# Altium footprint library EPS.PcbLib: 11 footprints
Each footprint in its own frame and in the unit in brackets; x right, y up, seen from the top. Pads: shape width x height; smd on the part's side, far side on the other; paste and mask are expansions set on the pad; w line width, h text height; cw(c..) or ccw(c..) is an arc to the next point about the centre after c.
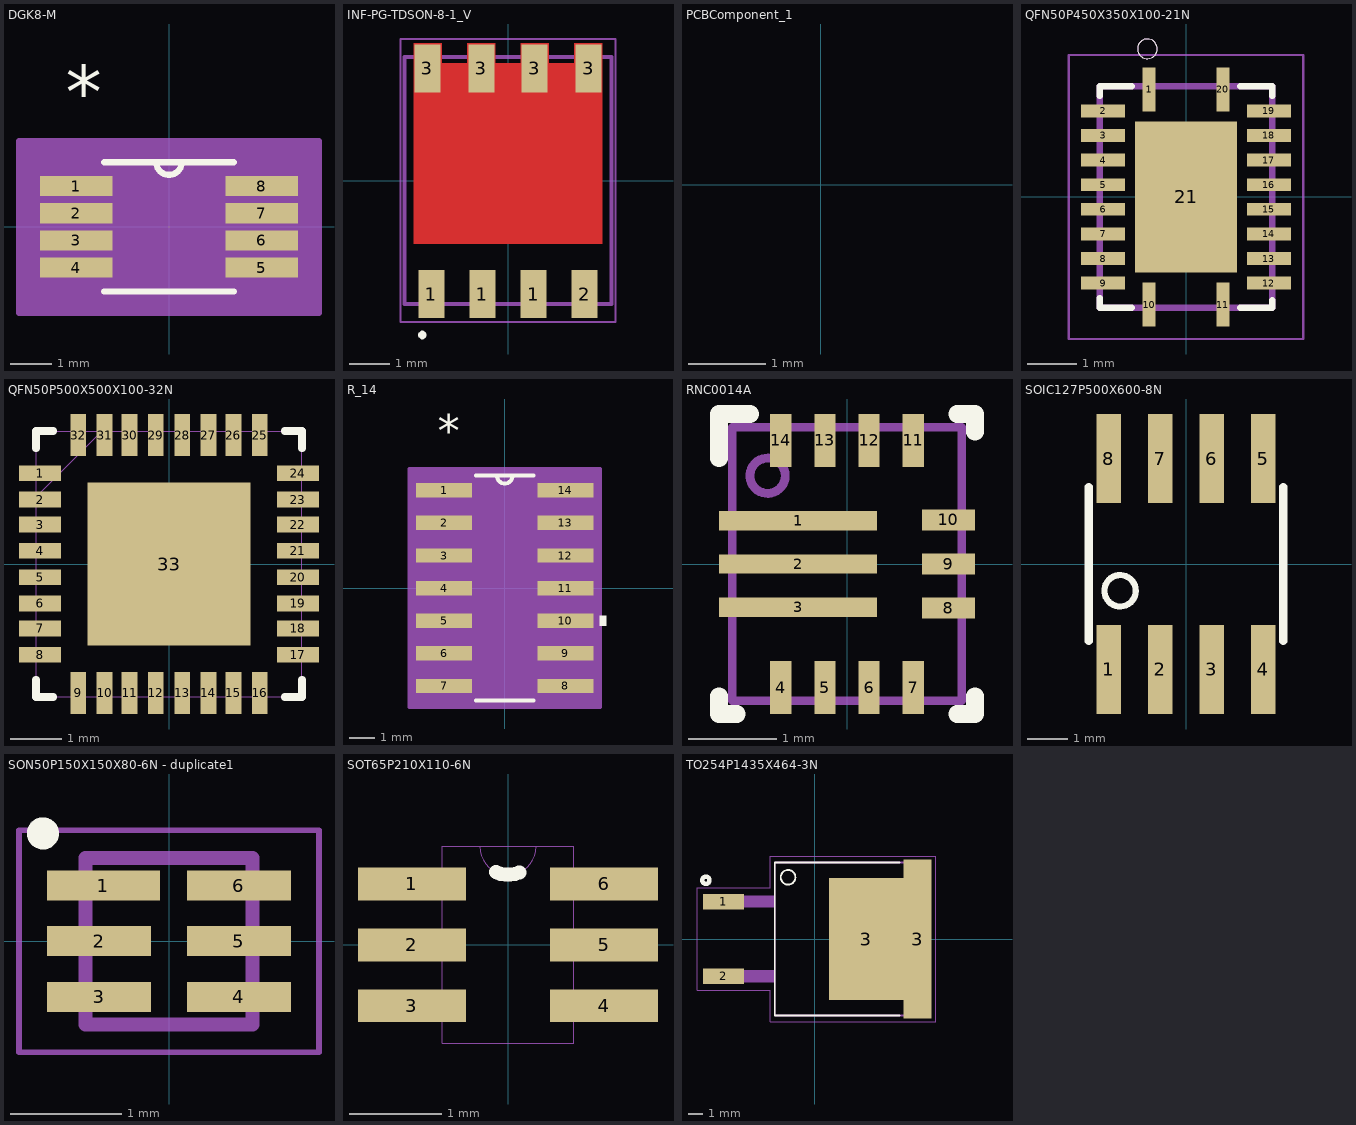
[diagram p0: the footprints below, top view; thin cyan lines are the x and y axes]

## DGK8-M [mil]
pads (8):
  rect 68x19 smd: 1(-87.5,38.39) 2(-87.5,12.8) 3(-87.5,-12.8) 4(-87.5,-38.39) 5(87.5,-38.39) 6(87.5,-12.8) 7(87.5,12.8) 8(87.5,38.39)
Top Overlay:
  lines w6: -61,-61 61,-61 ; -61,61 61,61 ; -12,61 ccw(c0,61) 12,61
  text "*" at -97.5,102.39 h50
Mechanical 13:
  lines w0: -12,61 ccw(c0,61) 12,61
  lines w1: -99.5,-45.89 -61,-45.89 -61,-30.89 -99.5,-30.89 -99.5,-45.89 ; -99.5,-20.3 -61,-20.3 -61,-5.3 -99.5,-5.3 -99.5,-20.3 ; -99.5,5.3 -61,5.3 -61,20.3 -99.5,20.3 -99.5,5.3 ; -99.5,30.89 -61,30.89 -61,45.89 -99.5,45.89 -99.5,30.89 ; -61,-61 -61,61 61,61 61,-61 -61,-61 ; 61,-45.89 99.5,-45.89 99.5,-30.89 61,-30.89 61,-45.89 ; 61,-20.3 99.5,-20.3 99.5,-5.3 61,-5.3 61,-20.3 ; 61,5.3 99.5,5.3 99.5,20.3 61,20.3 61,5.3 ; 61,30.89 99.5,30.89 99.5,45.89 61,45.89 61,30.89
  text "*" at -97.5,102.39 h50
Mechanical 15:
  region: 141.5,-81 -141.5,-81 -141.5,81 141.5,81
  lines w6: -141.5,-81 141.5,-81 141.5,81 -141.5,81 -141.5,-81
3D body: height 10, standoff 0, extent 0,0 10,10

## INF-PG-TDSON-8-1_V [mm] "TDSON, 8-Leads, Body 6.15x5.15mm, Pitch 1.27mm"
height 1
pads (8):
  rect 0.65x1.2 smd: 1(-1.905,-2.825) 1(-0.635,-2.825) 1(0.635,-2.825) 2(1.905,-2.825) 3(-2.007,2.794) 3(-0.66,2.794) 3(0.66,2.794) 3(2.007,2.794)
Top Layer:
  region: 0.315,2.925 1.015,2.925 1.015,3.425 0.315,3.425
  region: -1.015,2.925 -0.315,2.925 -0.315,3.425 -1.015,3.425
  region: 1.65,2.925 2.35,2.925 2.35,3.425 1.65,3.425
  region: -2.35,2.925 -1.65,2.925 -1.65,3.425 -2.35,3.425
  region: -2.35,2.925 -2.35,-1.575 2.35,-1.575 2.35,2.925
Top Overlay:
  region: -2.234,-3.842 -2.234,-3.862 -2.218,-3.899 -2.19,-3.927 -2.153,-3.942 -2.134,-3.942 -2.114,-3.942 -2.077,-3.927 -2.049,-3.899 -2.034,-3.862 -2.034,-3.842 -2.034,-3.822 -2.049,-3.785 -2.077,-3.757 -2.114,-3.742 -2.134,-3.742 -2.153,-3.742 -2.19,-3.757 -2.218,-3.785 -2.234,-3.822
Mechanical 13:
  lines w0.1: -2.575,-3.075 2.575,-3.075 2.575,3.075 -2.575,3.075 -2.575,-3.075
Mechanical 15:
  lines w0.05: -2.675,-3.525 2.675,-3.525 2.675,3.525 -2.675,3.525 -2.675,-3.525
  lines w0.1: -0.5,0 0.5,0 ; 0,-0.5 0,0.5
3D body: height 1, standoff 0, extent -2.575,-3.075 2.575,3.075

## PCBComponent_1 [mm]
pads (4):
  rrect50% 1.79x0.22 on Top Solder: 1(-0.71,0.3) 3(-0.71,-0.68)
  rrect50% 1.79x0.24 on Top Solder: 2(-0.71,-0.19)
  rrect50% 0.24x0.6 on Top Solder: 4(-0.71,-1.59)
Top Layer:
  pour cut-out: 2.286,1.778

## QFN50P450X350X100-21N [mm]
pads (21):
  rect 0.26x0.9 smd: 1(-0.75,2.185) 10(-0.75,-2.185) 11(0.75,-2.185) 20(0.75,2.185)
  rect 0.9x0.26 smd: 2(-1.685,1.75) 3(-1.685,1.25) 4(-1.685,0.75) 5(-1.685,0.25) 6(-1.685,-0.25) 7(-1.685,-0.75) 8(-1.685,-1.25) 9(-1.685,-1.75) 12(1.685,-1.75) 13(1.685,-1.25) 14(1.685,-0.75) 15(1.685,-0.25) 16(1.685,0.25) 17(1.685,0.75) 18(1.685,1.25) 19(1.685,1.75)
  rect 2.07x3.07 smd: 21(0,0)
Top Overlay:
  circle w0: c-0.785,3.01 r0.2
  lines w0.127: -1.75,-2.05 -1.75,-2.25 -1.1,-2.25 ; -1.75,2.05 -1.75,2.25 -1.1,2.25 ; 1.1,-2.25 1.75,-2.25 1.75,-2.1 ; 1.1,2.25 1.75,2.25 1.75,2.05
Top Paste:
  region: -0.672,0.767 0.517,0.767 0.517,-0.997 -0.672,-0.997
Mechanical 1:
  circle w0: c-0.785,3.01 r0.2
  lines w0.05: -2.385,-2.885 -2.385,2.885 2.385,2.885 2.385,-2.885 -2.385,-2.885
  lines w0.127: -1.75,-2.25 -1.75,2.25 1.75,2.25 1.75,-2.25 -1.75,-2.25

## QFN50P500X500X100-32N [mil]
pads (33):
  rect 32x12 smd: 1(-98,69) 2(-98,49) 3(-98,30) 4(-98,10) 5(-98,-10) 6(-98,-30) 7(-98,-49) 8(-98,-69) 17(98,-69) 18(98,-49) 19(98,-30) 20(98,-10) 21(98,10) 22(98,30) 23(98,49) 24(98,69)
  rect 12x32 smd: 9(-69,-98) 10(-49,-98) 11(-30,-98) 12(-10,-98) 13(10,-98) 14(30,-98) 15(49,-98) 16(69,-98) 25(69,98) 26(49,98) 27(30,98) 28(10,98) 29(-10,98) 30(-30,98) 31(-49,98) 32(-69,98)
  rect 124x124 smd: 33(0,0)
Top Overlay:
  lines w6: -101,-88 -101,-101 -88,-101 ; -101,88 -101,101 -88,101 ; 88,-101 101,-101 101,-88 ; 88,101 101,101 101,88
Mechanical 1:
  lines w0: -101,-75 -101,-63 ; -101,-55 -101,-43 ; -101,-35 -101,-24 ; -101,-16 -101,-4 ; -101,4 -101,16 ; -101,24 -101,35 ; -101,43 -101,55 ; -101,51 -51,101 ; -101,63 -101,75 ; -75,-101 -63,-101 ; -75,101 -63,101 ; -55,-101 -43,-101 ; -55,101 -43,101 ; -35,-101 -24,-101 ; -35,101 -24,101 ; -16,-101 -4,-101 ; -16,101 -4,101 ; 4,-101 16,-101 ; 4,101 16,101 ; 24,-101 35,-101 ; 24,101 35,101 ; 43,-101 55,-101 ; 43,101 55,101 ; 63,-101 75,-101 ; 63,101 75,101 ; 101,-75 101,-63 ; 101,-55 101,-43 ; 101,-35 101,-24 ; 101,-16 101,-4 ; 101,4 101,16 ; 101,24 101,35 ; 101,43 101,55 ; 101,63 101,75 ; -101,-101 101,-101 101,101 -101,101 -101,-101

## R_14 [mil]
pads (14):
  rect 86x22 smd: 1(-93,150) 2(-93,100) 3(-93,50) 4(-93,0) 5(-93,-50) 6(-93,-100) 7(-93,-150) 8(93,-150) 9(93,-100) 10(93,-50) 11(93,0) 12(93,50) 13(93,100) 14(93,150)
Top Overlay:
  region: 146,-42.5 156,-42.5 156,-57.5 146,-57.5
  lines w6: -43.94,-172.5 43.94,-172.5 ; -43.94,172.5 43.94,172.5 ; -12,172.5 ccw(c0,172.5) 12,172.5
  text "*" at -103,217 h50
Mechanical 13:
  lines w0: -12,172.5 ccw(c0,172.5) 12,172.5
  lines w1: -122,-160 -122,-140 -79,-140 -79,-160 -122,-160 ; -122,-110 -122,-90 -79,-90 -79,-110 -122,-110 ; -122,-60 -122,-40 -79,-40 -79,-60 -122,-60 ; -122,-10 -122,10 -79,10 -79,-10 -122,-10 ; -122,40 -122,60 -79,60 -79,40 -122,40 ; -122,90 -122,110 -79,110 -79,90 -122,90 ; -122,140 -122,160 -79,160 -79,140 -122,140 ; -79,-172.5 79,-172.5 79,172.5 -79,172.5 -79,-172.5 ; 79,-160 79,-140 122,-140 122,-160 79,-160 ; 79,-110 79,-90 122,-90 122,-110 79,-110 ; 79,-60 79,-40 122,-40 122,-60 79,-60 ; 79,-10 79,10 122,10 122,-10 79,-10 ; 79,40 79,60 122,60 122,40 79,40 ; 79,90 79,110 122,110 122,90 79,90 ; 79,140 79,160 122,160 122,140 79,140
  text "*" at -103,217 h50
Mechanical 15:
  region: 146,-182.5 -146,-182.5 -146,182.5 146,182.5
  lines w6: -146,-182.5 -146,182.5 146,182.5 146,-182.5 -146,-182.5
3D body: height 10, standoff 0, extent 0,0 10,10

## RNC0014A [mm]
pads (14):
  rect 1.79x0.22 smd paste-0.882 mask+0.051: 1(-0.555,0.49) 2(-0.555,0) 3(-0.555,-0.49)
  rect 0.24x0.6 smd paste+0 mask+0.051: 4(-0.75,-1.4) 5(-0.25,-1.4) 6(0.25,-1.4) 7(0.75,-1.4) 11(0.75,1.4) 12(0.25,1.4) 13(-0.25,1.4) 14(-0.75,1.4)
  rect 0.6x0.24 smd paste+0 mask+0.051: 8(1.15,-0.5) 9(1.15,0) 10(1.15,0.5)
Top Overlay:
  lines w0.2: -1.45,-1.5 -1.45,-1.7 -1.25,-1.7 ; -1.45,1.2 -1.45,1.7 -1.1,1.7 ; 1.25,-1.7 1.45,-1.7 1.45,-1.5 ; 1.25,1.7 1.45,1.7 1.45,1.5
Top Paste:
  drawing of 6 lines, arcs and shapes, not listed
Mechanical 13:
  circle w0.1: c-0.9,1 r0.2
  lines w0.1: -1.3,-1.55 -1.3,1.55 1.3,1.55 1.3,-1.55 -1.3,-1.55
3D body: height 0.25, standoff 0, extent 0,0 0.254,0.254

## SOIC127P500X600-8N [mm]
pads (8):
  rect 0.6x2.2 smd: 1(-1.905,-2.6) 2(-0.635,-2.6) 3(0.635,-2.6) 4(1.905,-2.6) 5(1.905,2.6) 6(0.635,2.6) 7(-0.635,2.6) 8(-1.905,2.6)
Top Overlay:
  circle w0.152: c-1.626,-0.66 r0.388
  lines w0.203: -2.4,-1.9 -2.4,-1.4 -2.4,1.9 ; 2.4,-1.9 2.4,-1.4 2.4,1.9
Mechanical 1:
  region: -2.152,3.1 -1.66,3.1 -1.66,2.002 -2.152,2.002
  region: -0.882,3.1 -0.39,3.1 -0.39,2.004 -0.882,2.004
  region: 0.391,3.1 0.88,3.1 0.88,2.005 0.391,2.005
  region: 1.663,3.1 2.15,3.1 2.15,2.004 1.663,2.004
  region: 1.662,-2 2.15,-2 2.15,-3.103 1.662,-3.103
  region: 0.39,-2 0.88,-2 0.88,-3.103 0.39,-3.103
  region: -0.882,-2 -0.39,-2 -0.39,-3.108 -0.882,-3.108
  region: -2.157,-2 -1.66,-2 -1.66,-3.11 -2.157,-3.11
3D body "SOIC127P500X600-8N.step": height 2.03, standoff 0, extent -2.46,-2.673 2.44,2.693

## SON50P150X150X80-6N - duplicate1 [mm]
pads (6):
  rect 1.02x0.27 smd: 1(-0.59,0.5)
  rect 0.94x0.27 smd: 2(-0.63,0) 3(-0.63,-0.5) 4(0.63,-0.5) 5(0.63,0) 6(0.63,0.5)
Top Overlay:
  circle w0.15: c-1.135,0.97 r0.07
Mechanical 1:
  lines w0.05: -1.35,-1 1.35,-1 1.35,1 -1.35,1 -1.35,-1
  lines w0.127: -0.75,-0.75 0.75,-0.75 0.75,0.75 -0.75,0.75 -0.75,-0.75

## SOT65P210X110-6N [mil]
pads (6):
  rect 46x14 smd: 1(-41,26) 2(-41,0) 3(-41,-26) 4(41,-26) 5(41,0) 6(41,26)
Top Overlay:
  lines w6: -5.1,31.04 ccw(c0,41.97) 4.9,30.96
Mechanical 1:
  lines w0: -28,-31 -28,-42 28,-42 28,-31 ; -28,-31 -28,-20 ; -28,-31 -47,-31 -47,-20 -28,-20 ; -28,-20 -28,-6 ; -28,-6 -28,6 ; -28,-6 -47,-6 -47,6 -28,6 ; -28,6 -28,20 ; -28,20 -28,31 ; -28,20 -47,20 -47,31 -28,31 ; -28,31 -28,42 -12,42 ; -12,42 ccw(c0,42) 12,42 ; -12,42 12,42 ; 12,42 28,42 28,31 ; 28,-31 28,-20 ; 28,-31 47,-31 47,-20 28,-20 ; 28,-20 28,-6 ; 28,-6 28,6 ; 28,-6 47,-6 47,6 28,6 ; 28,6 28,20 ; 28,20 28,31 ; 28,20 47,20 47,31 28,31

## TO254P1435X464-3N [mm]
pads (4):
  rect 2.8x1.05 smd: 1(-6.19,2.54) 2(-6.19,-2.54)
  rect 5.08x8.33 smd: 3(3.53,0)
  rect 1.91x10.8 smd: 3(7.025,0)
Top Overlay:
  circle w0.127: c-1.8,4.2 r0.5
  circle w0.3: c-7.4,4 r0.25
  lines w0.127: 5.8,-5.21 -2.705,-5.21 -2.705,5.21 5.8,5.21
Mechanical 1:
  region: -7.173,-2.14 -2.705,-2.14 -2.705,-2.951 -7.173,-2.951
  region: -7.168,2.94 -2.705,2.94 -2.705,2.147 -7.168,2.147
  lines w0.05: -8,-3.5 -8,3.5 -3,3.5 -3,5.625 8.25,5.625 8.25,-5.625 -3,-5.625 -3,-3.5 -8,-3.5
  lines w0.127: -2.705,-5.21 7.205,-5.21 7.205,5.21 -2.705,5.21 -2.705,-5.21